# EAGLE library part 206-124 (library 206-124)
4 Way Through Hole DIP Switch Single Pole Double Throw (SPDT), Standard Actuator Source: Datasheet <https://datasheet.datasheetarchive.com/originals/distributors/SFDatasheet-0/sf-0002828.pdf>
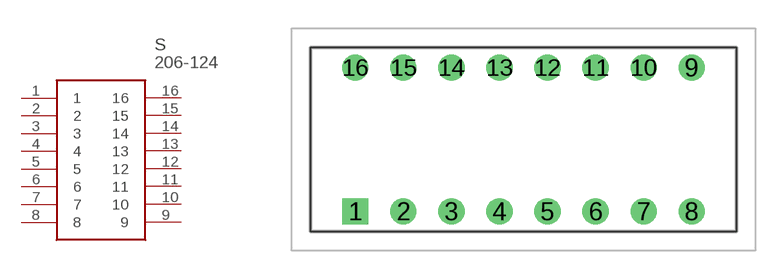
[diagram p0: symbol with the pads of 206124; footprint 206124]

Designator prefix S

## 206-124 (Description: 4 Way Through Hole DIP Switch Single Pole Double Throw (SPDT), Standard Actuator; Height: 8.49mm; Manufacturer_Name: CTS; Manufacturer_Part_Number: 206-124; Mouser_Part_Number: 774-206124; Mouser_Price-Stock: https://www.mouser.co.uk/ProductDetail/CTS-Electronic-Components/206-124?qs=YquLqel%252BdSwQ37OnMfpodQ%3D%3D)  [206124]
1  1
2  2
3  3
4  4
5  5
6  6
7  7
8  8
9  9
10  10
11  11
12  12
13  13
14  14
15  15
16  16

## Footprint 206124 (pad centres in mm)
206-124-2
drill 0.85 pad 1.381 square: 1 0,0
drill 0.85 pad 1.381: 2 2.54,0; 3 5.08,0; 4 7.62,0; 5 10.16,0; 6 12.7,0; 7 15.24,0; 8 17.78,0; 9 17.78,7.62; 10 15.24,7.62; 11 12.7,7.62; 12 10.16,7.62; 13 7.62,7.62; 14 5.08,7.62; 15 2.54,7.62; 16 0,7.62